# Altium schematic symbol library DIODE.Schlib: 1 symbol
Pins are listed as number, name and electrical type; pins without a type are passive.

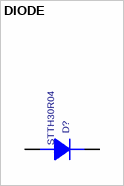
[diagram p0: symbol DIODE]

## DIODE
designator D?, comment STTH30R04
pins: 1 A, 2 K